# Altium footprint library RQ6C050UNTR.PcbLib: 3 footprints
Each footprint in its own frame and in the unit in brackets; x right, y up, seen from the top. Pads: shape width x height; smd on the part's side, far side on the other; paste and mask are expansions set on the pad; w line width, h text height; cw(c..) or ccw(c..) is an arc to the next point about the centre after c.
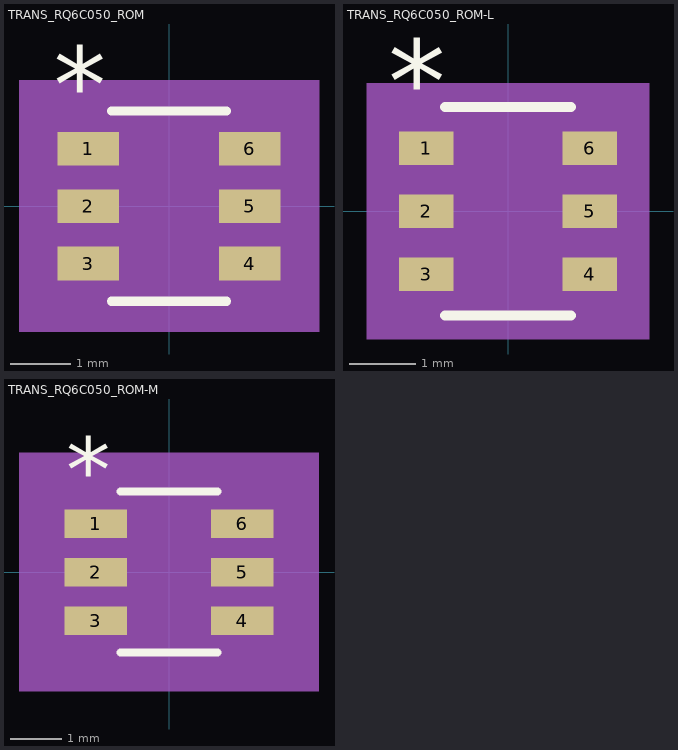
[diagram p0: the footprints below, top view; thin cyan lines are the x and y axes]

## TRANS_RQ6C050_ROM [mm]
pads (6):
  rect 1.023x0.558 smd paste+0 mask+0: 1(-1.337,0.95) 2(-1.337,0) 3(-1.337,-0.95) 4(1.337,-0.95) 5(1.337,0) 6(1.337,0.95)
Top Overlay:
  lines w0.152: -0.953,-1.575 0.953,-1.575 ; -0.953,1.575 0.953,1.575
  text "*" at -1.909,1.381 h1.27
Mechanical 5:
  region: 2.484,-2.083 -2.484,-2.083 -2.484,2.083 2.484,2.083
Mechanical 13:
  lines w0: -0.305,1.448 ccw(c0,1.448) 0.305,1.448
  lines w0.025: -1.499,-1.204 -1.499,-0.696 -0.826,-0.696 -0.826,-1.204 -1.499,-1.204 ; -1.499,-0.254 -1.499,0.254 -0.826,0.254 -0.826,-0.254 -1.499,-0.254 ; -1.499,0.696 -1.499,1.204 -0.826,1.204 -0.826,0.696 -1.499,0.696 ; -0.826,-1.448 0.826,-1.448 0.826,1.448 -0.826,1.448 -0.826,-1.448 ; 0.826,-1.204 0.826,-0.696 1.499,-0.696 1.499,-1.204 0.826,-1.204 ; 0.826,-0.254 0.826,0.254 1.499,0.254 1.499,-0.254 0.826,-0.254 ; 0.826,0.696 0.826,1.204 1.499,1.204 1.499,0.696 0.826,0.696
  text "*" at -0.762,0.102 h1.27
Mechanical 15:
  region: -1.079,-1.483 -2.103,-1.483 -2.103,1.483 -1.079,1.483 -1.079,1.702 1.079,1.702 1.079,1.483 2.103,1.483 2.103,-1.483 1.079,-1.483 1.079,-1.702 -1.079,-1.702
  lines w0.152: -2.103,-1.483 -2.103,1.483 -1.079,1.483 -1.079,1.702 1.079,1.702 1.079,1.483 2.103,1.483 2.103,-1.483 1.079,-1.483 1.079,-1.702 -1.079,-1.702 -1.079,-1.483 -2.103,-1.483
3D body "TRANS_RQ6C050_ROM.step": height 0.99, standoff 0, extent -1.499,-1.448 1.499,1.448

## TRANS_RQ6C050_ROM-L [mil]
pads (6):
  rect 32.41x20 smd paste+0 mask+0: 1(-48.7,37.4) 2(-48.7,0) 3(-48.7,-37.4) 4(48.7,-37.4) 5(48.7,0) 6(48.7,37.4)
Top Overlay:
  lines w6: -37.5,-62 37.5,-62 ; -37.5,62 37.5,62
  text "*" at -71.2,52.4 h50
Mechanical 5:
  region: 83.91,-76 -83.91,-76 -83.91,76 83.91,76
Mechanical 13:
  lines w0: -12,57 ccw(c0,57) 12,57
  lines w1: -59,-47.4 -59,-27.4 -32.5,-27.4 -32.5,-47.4 -59,-47.4 ; -59,-10 -59,10 -32.5,10 -32.5,-10 -59,-10 ; -59,27.4 -59,47.4 -32.5,47.4 -32.5,27.4 -59,27.4 ; -32.5,-57 32.5,-57 32.5,57 -32.5,57 -32.5,-57 ; 32.5,-47.4 32.5,-27.4 59,-27.4 59,-47.4 32.5,-47.4 ; 32.5,-10 32.5,10 59,10 59,-10 32.5,-10 ; 32.5,27.4 32.5,47.4 59,47.4 59,27.4 32.5,27.4
  text "*" at -30,4 h50
Mechanical 15:
  region: -36.5,-51.4 -68.91,-51.4 -68.91,51.4 -36.5,51.4 -36.5,61 36.5,61 36.5,51.4 68.91,51.4 68.91,-51.4 36.5,-51.4 36.5,-61 -36.5,-61
  lines w6: -68.91,-51.4 -68.91,51.4 -36.5,51.4 -36.5,61 36.5,61 36.5,51.4 68.91,51.4 68.91,-51.4 36.5,-51.4 36.5,-61 -36.5,-61 -36.5,-51.4 -68.91,-51.4
3D body "TRANS_RQ6C050_ROM.step": height 39.09, standoff 0, extent -59.02,-57.01 59.02,57.01

## TRANS_RQ6C050_ROM-M [mm]
pads (6):
  rect 1.223x0.558 smd paste+0 mask+0: 1(-1.437,0.95) 2(-1.437,0) 3(-1.437,-0.95) 4(1.437,-0.95) 5(1.437,0) 6(1.437,0.95)
Top Overlay:
  lines w0.152: -0.953,-1.575 0.953,-1.575 ; -0.953,1.575 0.953,1.575
  text "*" at -2.009,1.381 h1.27
Mechanical 5:
  region: 2.938,-2.337 -2.938,-2.337 -2.938,2.337 2.938,2.337
Mechanical 13:
  lines w0: -0.305,1.448 ccw(c0,1.448) 0.305,1.448
  lines w0.025: -1.499,-1.204 -1.499,-0.696 -0.826,-0.696 -0.826,-1.204 -1.499,-1.204 ; -1.499,-0.254 -1.499,0.254 -0.826,0.254 -0.826,-0.254 -1.499,-0.254 ; -1.499,0.696 -1.499,1.204 -0.826,1.204 -0.826,0.696 -1.499,0.696 ; -0.826,-1.448 0.826,-1.448 0.826,1.448 -0.826,1.448 -0.826,-1.448 ; 0.826,-1.204 0.826,-0.696 1.499,-0.696 1.499,-1.204 0.826,-1.204 ; 0.826,-0.254 0.826,0.254 1.499,0.254 1.499,-0.254 0.826,-0.254 ; 0.826,0.696 0.826,1.204 1.499,1.204 1.499,0.696 0.826,0.696
  text "*" at -0.762,0.102 h1.27
Mechanical 15:
  region: -1.333,-1.737 -2.557,-1.737 -2.557,1.737 -1.333,1.737 -1.333,1.956 1.333,1.956 1.333,1.737 2.557,1.737 2.557,-1.737 1.333,-1.737 1.333,-1.956 -1.333,-1.956
  lines w0.152: -2.557,-1.737 -2.557,1.737 -1.333,1.737 -1.333,1.956 1.333,1.956 1.333,1.737 2.557,1.737 2.557,-1.737 1.333,-1.737 1.333,-1.956 -1.333,-1.956 -1.333,-1.737 -2.557,-1.737
3D body "TRANS_RQ6C050_ROM.step": height 0.99, standoff 0, extent -1.499,-1.448 1.499,1.448